# Altium footprint library CONNECTOR.PCBLIB: 232 footprints (part 9 of 15)
Each footprint in its own frame and in the unit in brackets; x right, y up, seen from the top. Pads: shape width x height; smd on the part's side, far side on the other; paste and mask are expansions set on the pad; w line width, h text height; cw(c..) or ccw(c..) is an arc to the next point about the centre after c.
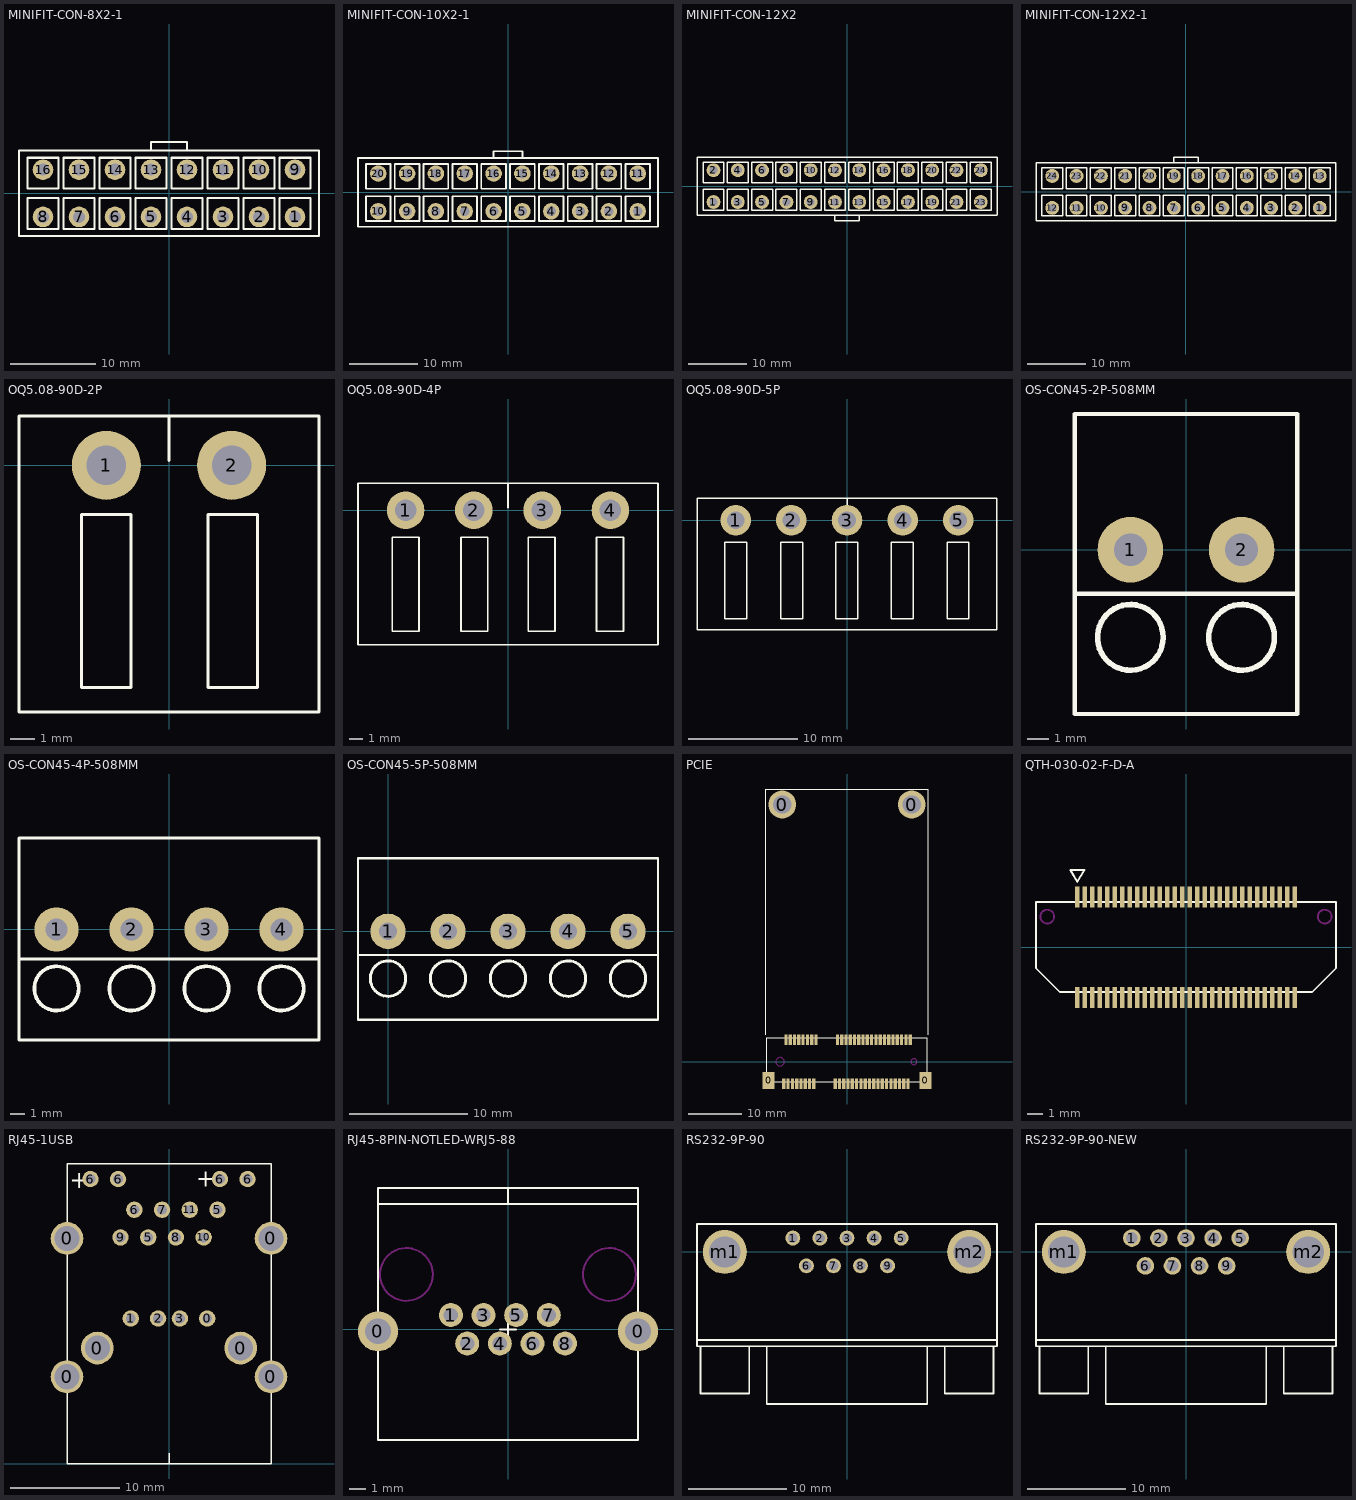
[diagram p8: the footprints below, top view; thin cyan lines are the x and y axes]

## MINIFIT-CON-8X2-1 [mm]
pads (16):
  round 2.4 hole 1.4: 1(14.7,-2.75) 2(10.5,-2.75) 3(6.3,-2.75) 4(2.1,-2.75) 5(-2.1,-2.75) 6(-6.3,-2.75) 7(-10.5,-2.75) 8(-14.7,-2.75) 9(14.7,2.75) 10(10.5,2.75) 11(6.3,2.75) 12(2.1,2.75) 13(-2.1,2.75) 14(-6.3,2.75) 15(-10.5,2.75) 16(-14.7,2.75)
TopOverlay:
  lines w0.254: -2.1,5 -2.1,6 2.1,6 2.1,5 ; -17.5,-5 17.5,-5 17.5,5 -17.5,5 -17.5,-5 ; -16.5,-4.15 -16.5,-0.55 -12.9,-0.55 -12.9,-4.15 -16.5,-4.15 ; -16.5,0.55 -16.5,4.15 -12.9,4.15 -12.9,0.55 -16.5,0.55 ; -12.3,-4.15 -12.3,-0.55 -8.7,-0.55 -8.7,-4.15 -12.3,-4.15 ; -12.3,0.55 -12.3,4.15 -8.7,4.15 -8.7,0.55 -12.3,0.55 ; -8.1,-4.15 -8.1,-0.55 -4.5,-0.55 -4.5,-4.15 -8.1,-4.15 ; -8.1,0.55 -8.1,4.15 -4.5,4.15 -4.5,0.55 -8.1,0.55 ; -3.9,-4.15 -3.9,-0.55 -0.3,-0.55 -0.3,-4.15 -3.9,-4.15 ; -3.9,0.55 -3.9,4.15 -0.3,4.15 -0.3,0.55 -3.9,0.55 ; 0.3,-4.15 0.3,-0.55 3.9,-0.55 3.9,-4.15 0.3,-4.15 ; 0.3,0.55 3.9,0.55 3.9,4.15 0.3,4.15 0.3,0.55 ; 4.5,-4.15 4.5,-0.55 8.1,-0.55 8.1,-4.15 4.5,-4.15 ; 4.5,0.55 4.5,4.15 8.1,4.15 8.1,0.55 4.5,0.55 ; 8.7,-4.15 8.7,-0.55 12.3,-0.55 12.3,-4.15 8.7,-4.15 ; 8.7,0.55 8.7,4.15 12.3,4.15 12.3,0.55 8.7,0.55 ; 12.9,-4.15 12.9,-0.55 16.5,-0.55 16.5,-4.15 12.9,-4.15 ; 12.9,0.55 12.9,4.15 16.5,4.15 16.5,0.55 12.9,0.55

## MINIFIT-CON-10X2-1 [mm]
pads (20):
  round 2.4 hole 1.4: 1(18.9,-2.75) 2(14.7,-2.75) 3(10.5,-2.75) 4(6.3,-2.75) 5(2.1,-2.75) 6(-2.1,-2.75) 7(-6.3,-2.75) 8(-10.5,-2.75) 9(-14.7,-2.75) 10(-18.9,-2.75) 11(18.9,2.75) 12(14.7,2.75) 13(10.5,2.75) 14(6.3,2.75) 15(2.1,2.75) 16(-2.1,2.75) 17(-6.3,2.75) 18(-10.5,2.75) 19(-14.7,2.75) 20(-18.9,2.75)
TopOverlay:
  lines w0.254: -2.1,5 -2.1,6 2.1,6 2.1,5 ; -21.85,-5 -21.85,5 21.85,5 21.85,-5 -21.85,-5 ; -20.7,-4.15 -17.1,-4.15 -17.1,-0.55 -20.7,-0.55 -20.7,-4.15 ; -20.7,0.55 -17.1,0.55 -17.1,4.15 -20.7,4.15 -20.7,0.55 ; -16.5,-4.15 -12.9,-4.15 -12.9,-0.55 -16.5,-0.55 -16.5,-4.15 ; -16.5,0.55 -12.9,0.55 -12.9,4.15 -16.5,4.15 -16.5,0.55 ; -12.3,-4.15 -8.7,-4.15 -8.7,-0.55 -12.3,-0.55 -12.3,-4.15 ; -12.3,0.55 -12.3,4.15 -8.7,4.15 -8.7,0.55 -12.3,0.55 ; -8.1,-4.15 -4.5,-4.15 -4.5,-0.55 -8.1,-0.55 -8.1,-4.15 ; -8.1,0.55 -4.5,0.55 -4.5,4.15 -8.1,4.15 -8.1,0.55 ; -3.9,-4.15 -0.3,-4.15 -0.3,-0.55 -3.9,-0.55 -3.9,-4.15 ; -3.9,0.55 -0.3,0.55 -0.3,4.15 -3.9,4.15 -3.9,0.55 ; 0.3,-4.15 3.9,-4.15 3.9,-0.55 0.3,-0.55 0.3,-4.15 ; 0.3,0.55 3.9,0.55 3.9,4.15 0.3,4.15 0.3,0.55 ; 4.5,-4.15 8.1,-4.15 8.1,-0.55 4.5,-0.55 4.5,-4.15 ; 4.5,0.55 8.1,0.55 8.1,4.15 4.5,4.15 4.5,0.55 ; 8.7,-4.15 12.3,-4.15 12.3,-0.55 8.7,-0.55 8.7,-4.15 ; 8.7,0.55 12.3,0.55 12.3,4.15 8.7,4.15 8.7,0.55 ; 12.9,-4.15 16.5,-4.15 16.5,-0.55 12.9,-0.55 12.9,-4.15 ; 12.9,0.55 16.5,0.55 16.5,4.15 12.9,4.15 12.9,0.55 ; 17.1,-4.15 20.7,-4.15 20.7,-0.55 17.1,-0.55 17.1,-4.15 ; 17.1,0.55 20.7,0.55 20.7,4.15 17.1,4.15 17.1,0.55

## MINIFIT-CON-12X2 [mm]
pads (24):
  round 2.4 hole 1.4: 1(-23.1,-2.75) 2(-23.1,2.75) 3(-18.9,-2.75) 4(-18.9,2.75) 5(-14.7,-2.75) 6(-14.7,2.75) 7(-10.5,-2.75) 8(-10.5,2.75) 9(-6.3,-2.75) 10(-6.3,2.75) 11(-2.1,-2.75) 12(-2.1,2.75) 13(2.1,-2.75) 14(2.1,2.75) 15(6.3,-2.75) 16(6.3,2.75) 17(10.5,-2.75) 18(10.5,2.75) 19(14.7,-2.75) 20(14.7,2.75) 21(18.9,-2.75) 22(18.9,2.75) 23(23.1,-2.75) 24(23.1,2.75)
TopOverlay:
  lines w0.254: -25.95,-5 25.85,-5 ; -25.9,-5 -25.9,5 25.9,5 25.9,-5 ; -2.1,-5 -2.1,-6 2.1,-6 2.1,-5 ; -24.9,-4.15 -24.9,-0.55 -21.3,-0.55 -21.3,-4.15 -24.9,-4.15 ; -24.9,0.55 -24.9,4.15 -21.3,4.15 -21.3,0.55 -24.9,0.55 ; -20.7,-4.15 -20.7,-0.55 -17.1,-0.55 -17.1,-4.15 -20.7,-4.15 ; -20.7,0.55 -20.7,4.15 -17.1,4.15 -17.1,0.55 -20.7,0.55 ; -16.5,-4.15 -16.5,-0.55 -12.9,-0.55 -12.9,-4.15 -16.5,-4.15 ; -16.5,0.55 -16.5,4.15 -12.9,4.15 -12.9,0.55 -16.5,0.55 ; -12.3,-4.15 -12.3,-0.55 -8.7,-0.55 -8.7,-4.15 -12.3,-4.15 ; -12.3,0.55 -12.3,4.15 -8.7,4.15 -8.7,0.55 -12.3,0.55 ; -8.1,-4.15 -8.1,-0.55 -4.5,-0.55 -4.5,-4.15 -8.1,-4.15 ; -8.1,0.55 -4.5,0.55 -4.5,4.15 -8.1,4.15 -8.1,0.55 ; -3.9,-4.15 -3.9,-0.55 -0.3,-0.55 -0.3,-4.15 -3.9,-4.15 ; -3.9,0.55 -3.9,4.15 -0.3,4.15 -0.3,0.55 -3.9,0.55 ; 0.3,-4.15 0.3,-0.55 3.9,-0.55 3.9,-4.15 0.3,-4.15 ; 0.3,0.55 0.3,4.15 3.9,4.15 3.9,0.55 0.3,0.55 ; 4.5,-4.15 4.5,-0.55 8.1,-0.55 8.1,-4.15 4.5,-4.15 ; 4.5,0.55 4.5,4.15 8.1,4.15 8.1,0.55 4.5,0.55 ; 8.7,-4.15 8.7,-0.55 12.3,-0.55 12.3,-4.15 8.7,-4.15 ; 8.7,0.55 8.7,4.15 12.3,4.15 12.3,0.55 8.7,0.55 ; 12.9,-4.15 12.9,-0.55 16.5,-0.55 16.5,-4.15 12.9,-4.15 ; 12.9,0.55 12.9,4.15 16.5,4.15 16.5,0.55 12.9,0.55 ; 17.1,-4.15 17.1,-0.55 20.7,-0.55 20.7,-4.15 17.1,-4.15 ; 17.1,0.55 17.1,4.15 20.7,4.15 20.7,0.55 17.1,0.55 ; 21.3,-4.15 21.3,-0.55 24.9,-0.55 24.9,-4.15 21.3,-4.15 ; 21.3,0.55 21.3,4.15 24.9,4.15 24.9,0.55 21.3,0.55

## MINIFIT-CON-12X2-1 [mm]
pads (24):
  round 2.4 hole 1.4: 1(23.1,-2.75) 2(18.9,-2.75) 3(14.7,-2.75) 4(10.5,-2.75) 5(6.3,-2.75) 6(2.1,-2.75) 7(-2.1,-2.75) 8(-6.3,-2.75) 9(-10.5,-2.75) 10(-14.7,-2.75) 11(-18.9,-2.75) 12(-23.1,-2.75) 13(23.1,2.75) 14(18.9,2.75) 15(14.7,2.75) 16(10.5,2.75) 17(6.3,2.75) 18(2.1,2.75) 19(-2.1,2.75) 20(-6.3,2.75) 21(-10.5,2.75) 22(-14.7,2.75) 23(-18.9,2.75) 24(-23.1,2.75)
TopOverlay:
  lines w0.254: -2.1,5 -2.1,6 2.1,6 2.1,5 ; -25.9,-5 -25.9,5 25.9,5 25.9,-5 -25.9,-5 ; -24.9,-4.15 -21.3,-4.15 -21.3,-0.55 -24.9,-0.55 -24.9,-4.15 ; -24.9,0.55 -21.3,0.55 -21.3,4.15 -24.9,4.15 -24.9,0.55 ; -20.7,-4.15 -17.1,-4.15 -17.1,-0.55 -20.7,-0.55 -20.7,-4.15 ; -20.7,0.55 -17.1,0.55 -17.1,4.15 -20.7,4.15 -20.7,0.55 ; -16.5,-4.15 -12.9,-4.15 -12.9,-0.55 -16.5,-0.55 -16.5,-4.15 ; -16.5,0.55 -12.9,0.55 -12.9,4.15 -16.5,4.15 -16.5,0.55 ; -12.3,-4.15 -8.7,-4.15 -8.7,-0.55 -12.3,-0.55 -12.3,-4.15 ; -12.3,0.55 -8.7,0.55 -8.7,4.15 -12.3,4.15 -12.3,0.55 ; -8.1,-4.15 -4.5,-4.15 -4.5,-0.55 -8.1,-0.55 -8.1,-4.15 ; -8.1,0.55 -8.1,4.15 -4.5,4.15 -4.5,0.55 -8.1,0.55 ; -3.9,-4.15 -0.3,-4.15 -0.3,-0.55 -3.9,-0.55 -3.9,-4.15 ; -3.9,0.55 -0.3,0.55 -0.3,4.15 -3.9,4.15 -3.9,0.55 ; 0.3,-4.15 3.9,-4.15 3.9,-0.55 0.3,-0.55 0.3,-4.15 ; 0.3,0.55 3.9,0.55 3.9,4.15 0.3,4.15 0.3,0.55 ; 4.5,-4.15 8.1,-4.15 8.1,-0.55 4.5,-0.55 4.5,-4.15 ; 4.5,0.55 8.1,0.55 8.1,4.15 4.5,4.15 4.5,0.55 ; 8.7,-4.15 12.3,-4.15 12.3,-0.55 8.7,-0.55 8.7,-4.15 ; 8.7,0.55 12.3,0.55 12.3,4.15 8.7,4.15 8.7,0.55 ; 12.9,-4.15 16.5,-4.15 16.5,-0.55 12.9,-0.55 12.9,-4.15 ; 12.9,0.55 16.5,0.55 16.5,4.15 12.9,4.15 12.9,0.55 ; 17.1,-4.15 20.7,-4.15 20.7,-0.55 17.1,-0.55 17.1,-4.15 ; 17.1,0.55 20.7,0.55 20.7,4.15 17.1,4.15 17.1,0.55 ; 21.3,-4.15 24.9,-4.15 24.9,-0.55 21.3,-0.55 21.3,-4.15 ; 21.3,0.55 24.9,0.55 24.9,4.15 21.3,4.15 21.3,0.55

## OQ5.08-90D-2P [mm]
pads (2):
  round 2.8 hole 1.6: 1(-2.54,0) 2(2.54,0)
TopOverlay:
  lines w0.127: 0,0.2 0,2 ; -6.08,-10 6.08,-10 6.08,2 -6.08,2 -6.08,-10 ; -3.54,-9 -3.54,-2 -1.54,-2 -1.54,-9 -3.54,-9 ; 1.58,-9 1.58,-2 3.58,-2 3.58,-9 1.58,-9

## OQ5.08-90D-4P [mm]
pads (4):
  round 2.8 hole 1.6: 1(-7.62,0) 2(-2.54,0) 3(2.54,0) 4(7.62,0)
TopOverlay:
  lines w0.127: 0,0.2 0,2 ; -11.16,-10 11.16,-10 11.16,2 -11.16,2 -11.16,-10 ; -8.62,-9 -8.62,-2 -6.62,-2 -6.62,-9 -8.62,-9 ; -3.5,-9 -3.5,-2 -1.5,-2 -1.5,-9 -3.5,-9 ; 1.5,-9 1.5,-2 3.5,-2 3.5,-9 1.5,-9 ; 6.58,-9 6.58,-2 8.58,-2 8.58,-9 6.58,-9 ; 6.6,-9 6.6,-2 8.6,-2 8.6,-9 6.6,-9

## OQ5.08-90D-5P [mm]
pads (5):
  round 2.8 hole 1.6: 1(-10.16,0) 2(-5.08,0) 3(0,0) 4(5.08,0) 5(10.16,0)
TopOverlay:
  lines w0.127: 0,0.2 0,2 ; -13.7,-10 -13.7,2 13.7,2 13.7,-10 -13.7,-10 ; -11.16,-9 -9.16,-9 -9.16,-2 -11.16,-2 -11.16,-9 ; -6.04,-9 -4.04,-9 -4.04,-2 -6.04,-2 -6.04,-9 ; -1.04,-9 0.96,-9 0.96,-2 -1.04,-2 -1.04,-9 ; 4.04,-9 6.04,-9 6.04,-2 4.04,-2 4.04,-9 ; 4.06,-9 6.06,-9 6.06,-2 4.06,-2 4.06,-9 ; 9.14,-9 11.14,-9 11.14,-2 9.14,-2 9.14,-9

## OS-CON45-2P-508MM [mm]
pads (2):
  round 3 hole 1.5: 1(-2.54,0) 2(2.54,0)
TopOverlay:
  circle w0.254: c-2.54,-4 r1.5
  circle w0.254: c2.54,-4 r1.5
  lines w0.2: -5.08,-2 5.08,-2 ; -5.08,-7.5 5.08,-7.5 5.08,6.2 -5.08,6.2 -5.08,-7.5

## OS-CON45-4P-508MM [mm]
pads (4):
  round 3 hole 1.5: 1(-7.62,0) 2(-2.54,0) 3(2.54,0) 4(7.62,0)
TopOverlay:
  circle w0.254: c7.62,-4 r1.5
  circle w0.254: c2.54,-4 r1.5
  circle w0.254: c-2.54,-4 r1.5
  circle w0.254: c-7.62,-4 r1.5
  lines w0.2: -10.16,-2 10.16,-2 ; -10.16,-7.5 -10.16,6.2 10.16,6.2 10.16,-7.5 -10.16,-7.5

## OS-CON45-5P-508MM [mm]
pads (5):
  round 3 hole 1.5: 1(0,0) 2(5.08,0) 3(10.16,0) 4(15.24,0) 5(20.32,0)
TopOverlay:
  circle w0.254: c20.32,-4 r1.5
  circle w0.254: c15.24,-4 r1.5
  circle w0.254: c15.24,-4 r1.5
  circle w0.254: c10.16,-4 r1.5
  circle w0.254: c5.08,-4 r1.5
  circle w0.254: c0,-4 r1.5
  lines w0.2: -2.54,-2 22.86,-2 ; -2.54,-7.5 -2.54,6.2 22.86,6.2 22.86,-7.5 -2.54,-7.5

## PCIE [mm] "PCIE"
pads (56):
  rect 2.3x3.2 smd: 0(-14.65,-3.5) 0(14.65,-3.5)
  round 5.2 hole 3.4: 0(-12.1,48.05) 0(12.1,48.05)
  rect 0.6x2 smd: 1(-11.8,-4.1) 2(-11.4,4.1) 3(-11,-4.1) 4(-10.6,4.1) 5(-10.2,-4.1) 6(-9.8,4.1) 7(-9.4,-4.1) 8(-9,4.1) 9(-8.6,-4.1) 10(-8.2,4.1) 11(-7.8,-4.1) 12(-7.4,4.1) 13(-7,-4.1) 14(-6.6,4.1) 15(-6.2,-4.1) 16(-5.8,4.1) 17(-2.2,-4.1) 18(-1.8,4.1) 19(-1.4,-4.1) 20(-1,4.1) 21(-0.6,-4.1) 22(-0.2,4.1) 23(0.2,-4.1) 24(0.6,4.1) 25(1,-4.1) 26(1.4,4.1) 27(1.8,-4.1) 28(2.2,4.1) 29(2.6,-4.1) 30(3,4.1) 31(3.4,-4.1) 32(3.8,4.1) 33(4.2,-4.1) 34(4.6,4.1) 35(5,-4.1) 36(5.4,4.1) 37(5.8,-4.1) 38(6.2,4.1) 39(6.6,-4.1) 40(7,4.1) 41(7.4,-4.1) 42(7.8,4.1) 43(8.2,-4.1) 44(8.6,4.1) 45(9,-4.1) 46(9.4,4.1) 47(9.8,-4.1) 48(10.2,4.1) 49(10.6,-4.1) 50(11,4.1) 51(11.4,-4.1) 52(11.8,4.1)
TopOverlay:
  lines w0.127: -15.2,5 -15.2,50.95 15.2,50.95 15.2,5 ; -14.95,-3.7 14.95,-3.7 14.95,4.5 -14.95,4.5 -14.95,-3.7
KeepOutLayer:
  circle w0.1: c-12.5,0 r0.8
  circle w0.1: c12.5,0 r0.55

## QTH-030-02-F-D-A [mm] "QTH-030-02-F-D-A"
pads (60):
  rect 0.3x1.4 smd: 1(-7.25,3.35) 2(-7.25,-3.35) 3(-6.75,3.35) 4(-6.75,-3.35) 5(-6.25,3.35) 6(-6.25,-3.35) 7(-5.75,3.35) 8(-5.75,-3.35) 9(-5.25,3.35) 10(-5.25,-3.35) 11(-4.75,3.35) 12(-4.75,-3.35) 13(-4.25,3.35) 14(-4.25,-3.35) 15(-3.75,3.35) 16(-3.75,-3.35) 17(-3.25,3.35) 18(-3.25,-3.35) 19(-2.75,3.35) 20(-2.75,-3.35) 21(-2.25,3.35) 22(-2.25,-3.35) 23(-1.75,3.35) 24(-1.75,-3.35) 25(-1.25,3.35) 26(-1.25,-3.35) 27(-0.75,3.35) 28(-0.75,-3.35) 29(-0.25,3.35) 30(-0.25,-3.35) 31(0.25,3.35) 32(0.25,-3.35) 33(0.75,3.35) 34(0.75,-3.35) 35(1.25,3.35) 36(1.25,-3.35) 37(1.75,3.35) 38(1.75,-3.35) 39(2.25,3.35) 40(2.25,-3.35) 41(2.75,3.35) 42(2.75,-3.35) 43(3.25,3.35) 44(3.25,-3.35) 45(3.75,3.35) 46(3.75,-3.35) 47(4.25,3.35) 48(4.25,-3.35) 49(4.75,3.35) 50(4.75,-3.35) 51(5.25,3.35) 52(5.25,-3.35) 53(5.75,3.35) 54(5.75,-3.35) 55(6.25,3.35) 56(6.25,-3.35) 57(6.75,3.35) 58(6.75,-3.35) 59(7.25,3.35) 60(7.25,-3.35)
TopOverlay:
  lines w0.127: -10,-1.4 -10,3 10,3 10,-1.4 8.4,-3 -8.4,-3 -10,-1.4 ; -7.7,5.125 -6.775,5.125 -7.25,4.35 -7.7,5.125
KeepOutLayer:
  circle w0.127: c-9.25,2.03 r0.46
  circle w0.127: c9.25,2.03 r0.46

## RJ45-1USB [mm]
pads (22):
  round 3 hole 2.3: 0(-9.35,8) 0(-9.35,20.68) 0(-6.565,10.63) 0(6.565,10.63) 0(9.35,8) 0(9.35,20.68)
  round 1.5 hole 0.9: 0(3.5,13.34) 1(-3.5,13.34) 2(-1,13.34) 3(1,13.34) 5(-1.905,20.77) 5(4.445,23.31) 6(-7.205,26.12) 6(-4.665,26.12) 6(-3.175,23.31) 6(4.665,26.12) 6(7.205,26.12) 7(-0.635,23.31) 8(0.635,20.77) 9(-4.445,20.77) 10(3.175,20.77) 11(1.905,23.31)
TopOverlay:
  lines w0.127: 0,0 0,1 ; -9.35,0 9.35,0 9.35,27.5 -9.35,27.5 -9.35,0
  text "+" at 2.5,25.4 h1.52
  text "+" at -9.1,25.3 h1.52

## RJ45-8PIN-NOTLED-WRJ5-88 [mm] "RJ45-8PIN-NOTLED-WRJ5-88"
pads (10):
  round 2.5 hole 1.6: 0(-8.13,-0.13) 0(8.13,-0.13)
  round 1.5 hole 0.9: 1(-3.57,0.89) 2(-2.55,-0.89) 3(-1.53,0.89) 4(-0.51,-0.89) 5(0.51,0.89) 6(1.53,-0.89) 7(2.55,0.89) 8(3.57,-0.89)
TopOverlay:
  lines w0.127: -8.13,7.83 8.13,7.83 ; -0.5,0 0.5,0 ; 0,-0.5 0,0.5 ; 0,7.83 0,8.83 ; -8.13,-6.92 -8.13,8.83 8.13,8.83 8.13,-6.92 -8.13,-6.92
KeepOutLayer:
  circle w0.127: c6.35,3.43 r1.65
  circle w0.127: c-6.35,3.43 r1.65

## RS232-9P-90 [mm]
pads (11):
  round 1.524 hole 1: 1(-5.54,1.42) 2(-2.77,1.42) 3(0,1.42) 4(2.77,1.42) 5(5.54,1.42) 6(-4.155,-1.42) 7(-1.385,-1.42) 8(1.385,-1.42) 9(4.155,-1.42)
  round 4.5 hole 3.2: m1(-12.5,0) m2(12.5,0)
TopOverlay:
  lines w0.2: -15.32,-9 15.345,-9 ; -15,-9.65 -15,-14.5 -10,-14.5 -10,-9.65 ; -8.21,-9.65 -8.21,-15.55 8.21,-15.55 8.21,-9.65 ; 10,-9.65 10,-14.5 15,-14.5 15,-9.65 ; -15.345,-9.65 15.345,-9.65 15.345,2.85 -15.345,2.85 -15.345,-9.65

## RS232-9P-90-NEW [mm] "RS232-9P-90-NEW"
pads (11):
  round 1.8 hole 1.2: 1(-5.54,1.42) 2(-2.77,1.42) 3(0,1.42) 4(2.77,1.42) 5(5.54,1.42) 6(-4.155,-1.42) 7(-1.385,-1.42) 8(1.385,-1.42) 9(4.155,-1.42)
  round 4.5 hole 3.2: m1(-12.5,0) m2(12.5,0)
TopOverlay:
  lines w0.2: -15.32,-9 15.345,-9 ; -15,-9.65 -15,-14.5 -10,-14.5 -10,-9.65 ; -8.21,-9.65 -8.21,-15.55 8.21,-15.55 8.21,-9.65 ; 10,-9.65 10,-14.5 15,-14.5 15,-9.65 ; -15.345,-9.65 -15.345,2.85 15.345,2.85 15.345,-9.65 -15.345,-9.65